# Altium footprint library Graphical Sign.PcbLib: 28 footprints (part 2 of 2)
Each footprint in its own frame and in the unit in brackets; x right, y up, seen from the top. Pads: shape width x height; smd on the part's side, far side on the other; paste and mask are expansions set on the pad; w line width, h text height; cw(c..) or ccw(c..) is an arc to the next point about the centre after c.
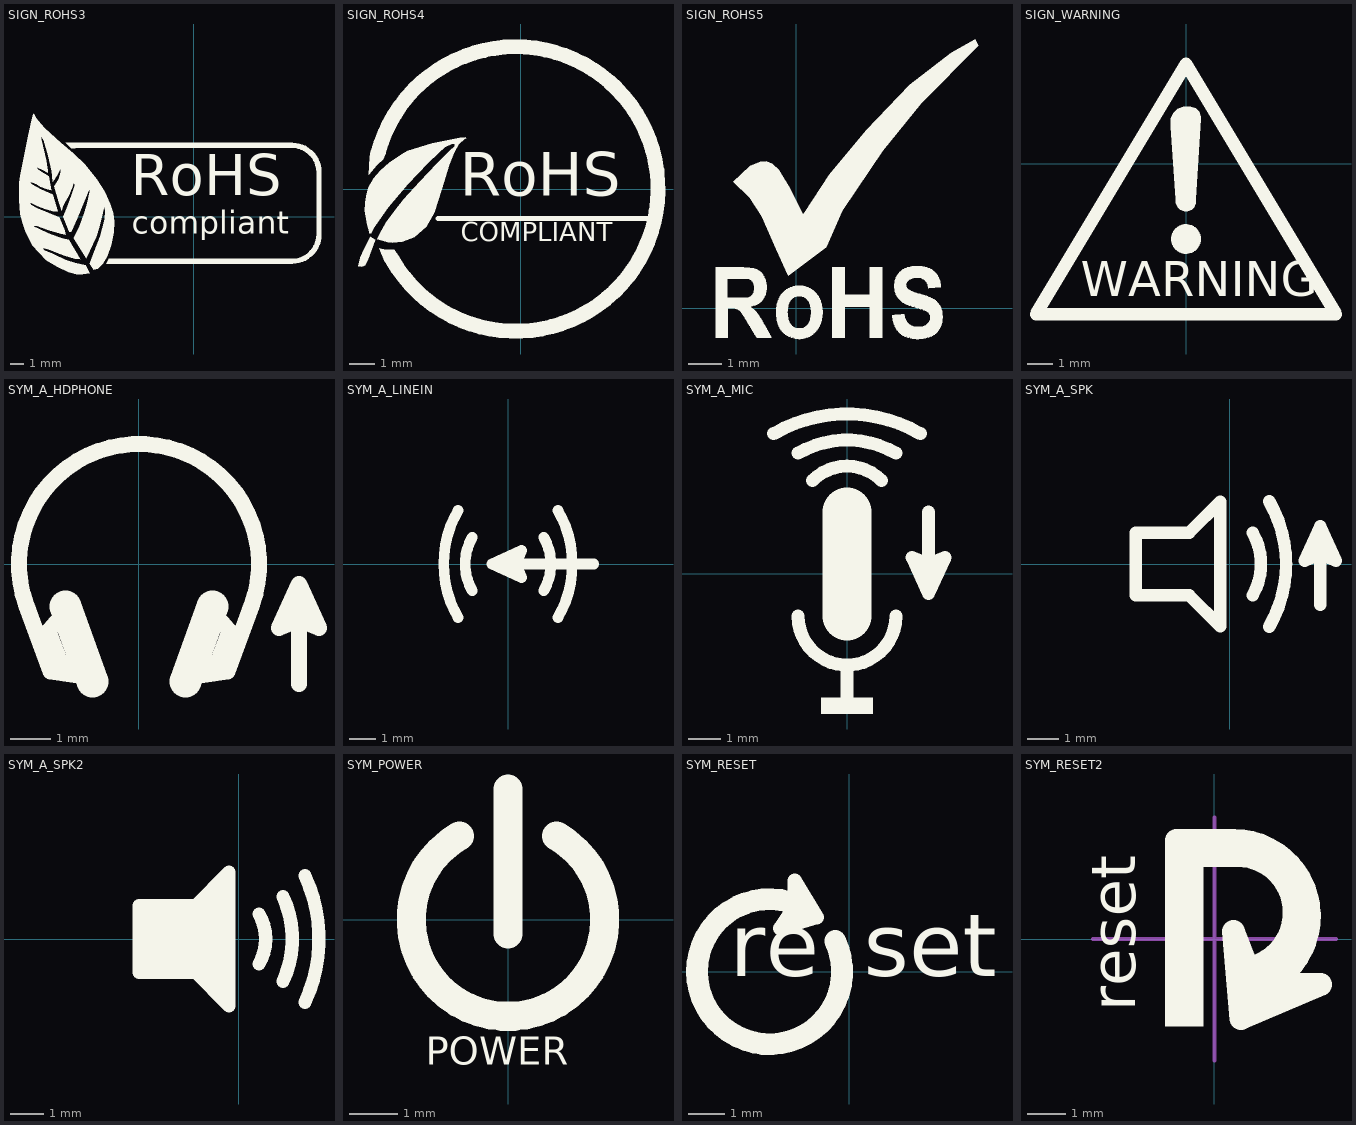
[diagram p1: the footprints below, top view; thin cyan lines are the x and y axes]

## SIGN_ROHS3 [mm] "SIGN, ROHS Compliant, 22.5X12mm"
Top Overlay:
  drawing of 8 lines, arcs and shapes, not listed
  text "compliant" at -4.6,-1.8 h2.9
  text "RoHS" at -4.66,0.6 h5.2

## SIGN_ROHS4 [mm] "SIGN, ROHS Compliant, 12X12mm"
Top Overlay:
  region: -5.4,1.46 -5.5,1.2 -5.76,0.96 -6.08,0.58 -6.04,1.28 -6,1.54
  region: -4.88,-2.7 -5.06,-2.44 -5.24,-2.44 -5.48,-2.42 -5.66,-2.38 -5.44,-2.92 -5.3,-3.04
  region: -5.82,-2.04 -6.02,-1.92 -6.26,-2.4 -6.42,-2.76 -6.52,-3.1 -6.38,-3.12 -6.3,-3.1 -6.22,-3.06 -6.12,-2.86
  region: -5.74,-2.02 -5.32,-2.14 -5.12,-2.16 -4.74,-2.12 -4.26,-1.94 -3.78,-1.52 -3.46,-0.96 -3.16,0 -2.86,0.98 -2.66,1.48 -2.48,1.8 -2.26,2 -2.18,2.04 -2.2,2.08 -2.44,2.06 -3.54,1.84 -4.52,1.54 -4.76,1.4 -5.24,1.08 -5.62,0.74 -5.88,0.44 -6.1,0.06 -6.18,-0.3 -6.22,-0.56 -6.24,-0.88 -6.14,-1.44 -6.04,-1.8 -5.98,-1.78 -5.86,-1.54 -5.3,-0.74 -4.52,0.2 -3.72,1.04 -3.28,1.46 -3.04,1.68 -2.78,1.8 -2.7,1.82 -2.66,1.82 -2.64,1.8 -2.64,1.74 -2.66,1.7 -2.8,1.58 -3.34,1.04 -4.04,0.3 -4.68,-0.42 -5.04,-0.88 -5.38,-1.34 -5.64,-1.8
  lines w0.2: -3.318,-1.19 5.188,-1.19
  lines w0.6: -5.706,1.475 cw(c-0.2,0) -5.136,-2.85
  text "COMPLIANT" at -2.4,-2.36 h1.3
  text "RoHS" at -2.44,-0.86 h3

## SIGN_ROHS5 [mm] "SIGN, ROHS Compliant, 12X12mm"
Top Overlay:
  drawing of 5 lines, arcs and shapes, not listed

## SIGN_WARNING [mm] "SIGN, WARNING, 12X12mm"
Top Overlay:
  circle w0.2: c0,-3 r0.5
  region: -0.4,-1.4 -0.6,1.5 -0.6,1.7 -0.6,1.819 -0.509,2.04 -0.34,2.209 -0.119,2.3 0,2.3 0.1,2.3 0.199,2.3 0.383,2.224 0.524,2.083 0.6,1.899 0.6,1.8 0.4,-1.4 0.4,-1.5 0.4,-1.58 0.339,-1.727 0.227,-1.839 0.08,-1.9 0,-1.9 -0.08,-1.9 -0.227,-1.839 -0.339,-1.727 -0.4,-1.58 -0.4,-1.5
  region: 0,-2.5 -0.099,-2.5 -0.283,-2.576 -0.424,-2.717 -0.5,-2.901 -0.5,-3 -0.5,-3.099 -0.424,-3.283 -0.283,-3.424 -0.099,-3.5 0,-3.5 0.099,-3.5 0.283,-3.424 0.424,-3.283 0.5,-3.099 0.5,-3 0.5,-2.901 0.424,-2.717 0.283,-2.576 0.099,-2.5
  lines w0.5: -6,-6 6,-6 0,4 -6,-6
  text "WARNING" at -4.2,-5.3 h1.4

## SYM_A_HDPHONE [mm] "Symbol, Audio, HeadPhone"
Top Overlay:
  lines w0.4: -2.489,-1.934 -1.808,-1.154 ; -2.258,-1.67 -1.893,-2.675 ; -1.192,-2.846 -2.215,-2.686 -2.819,-1.026 cw(c0,0) 2.819,-1.026 2.215,-2.686 1.192,-2.846 ; 1.808,-1.154 2.489,-1.934 ; 1.893,-2.675 2.258,-1.67 ; 4,-3 4,-0.5 ; 4,-0.5 4.5,-1.6 4,-1.4 3.5,-1.6 4,-0.5
  lines w0.8: -1.842,-1.06 -1.158,-2.94 ; 1.158,-2.94 1.842,-1.06

## SYM_A_LINEIN [mm] "Symbol, Audio, LineIN"
Top Overlay:
  lines w0.4: -1.864,-2 cw(c1.6,0) -1.864,2 ; -1.332,-1 cw(c0.4,0) -1.332,1 ; 1.332,-1 ccw(c-0.4,0) 1.332,1 ; 1.864,-2 ccw(c-1.6,0) 1.864,2 ; 3.2,0 -0.6,0 ; -0.6,0 0.5,0.5 0.3,0 0.5,-0.5 -0.6,0

## SYM_A_MIC [mm] "Symbol, Audio, Microphone, 6X9.5mm"
Top Overlay:
  rectangle: -0.8,-4.3 0.8,-3.8
  lines w0.4: -2.25,4.297 cw(c0,0.4) 2.25,4.297 ; -1.5,-1.3 ccw(c0,-1.3) 1.5,-1.3 ; -1.5,3.698 cw(c0,1.1) 1.5,3.698 ; -1.061,2.861 cw(c0,1.8) 1.061,2.861 ; 0,-3.8 0,-2.8 ; 2.5,1.9 2.5,-0.6 ; 2.5,-0.6 2,0.5 2.5,0.3 3,0.5 2.5,-0.6
  lines w1.5: 0,-1.3 0,1.9

## SYM_A_SPK [mm] "Symbol, Audio, Speaker"
Top Overlay:
  lines w0.4: 0.732,-1 ccw(c-1,0) 0.732,1 ; 1.264,-2 ccw(c-2.2,0) 1.264,2 ; 2.9,-1.3 2.9,1.2 ; 2.9,1.2 2.4,0.1 2.9,0.3 3.4,0.1 2.9,1.2 ; -3,-1 -3,1 -1.3,1 -0.3,2 -0.3,-2 -1.3,-1 -3,-1

## SYM_A_SPK2 [mm] "Symbol, Audio, Speaker Full"
Top Overlay:
  region: -0.3,2 -1.3,1 -3,1 -3,-1 -1.3,-1 -0.3,-2
  lines w0.4: 0.599,-0.75 ccw(c-0.7,0) 0.599,0.75 ; 1.319,-1.268 ccw(c-1.4,0) 1.319,1.268 ; 1.978,-1.902 ccw(c-2.1,0) 1.978,1.902 ; -3,-1 -1.3,-1 -0.3,-2 -0.3,2 -1.3,1 -3,1 -3,-1

## SYM_POWER [mm] "Symbol, POWER, 4.6X6.3mm"
Top Overlay:
  lines w0.6: -1,1.732 ccw(c0,0) 1,1.732 ; 0,-0.3 0,2.7
  text "POWER" at -1.7,-3.2 h1

## SYM_RESET [mm] "Symbol, RESET, 8.8x5mm"
Top Overlay:
  lines w0.4: -1.9,1.2 -0.9,1.5 -1.5,2.5 -1.5,1.8 -1.9,1.2
  lines w0.6: -1.2,1.732 ccw(c-2.2,0) -0.387,0.845
  text "re" at -3.3,-0.7 h3
  text "set" at 0.4,-0.7 h3

## SYM_RESET2 [mm] "Symbol, RESET, 5.4x6.3mm"
Top Overlay:
  region: -1.3,-2.3 -1.3,2.1 -0.3,2.1 -0.3,-2.3
  lines w0.6: -1,-2 -1,2.6 0.5,2.6 cw(c0.5,0.6) 1.5,-1.132 ; -0.8,2.2 0.7,2.2 ; 0.6,-0.8 ccw(c0.6,0.7) 0.6,2.2 ; 1.2,-1.6 0.5,0.2 0.7,-2.1 2.8,-1.2 1.3,-1.2
  text "reset" at -1.7,-1.9 h2
Mechanical 1:
  lines w0.1: -3.2,0 3.2,0 ; 0,-3.2 0,3.2